# EAGLE library part LTC4442-8MSOP (library LTC4442(8MSOP))
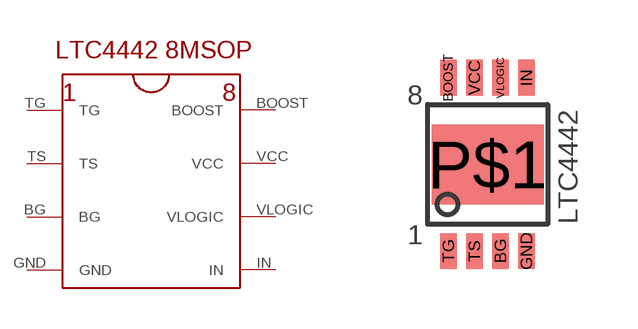
[diagram p0: symbol with the pads of LTC4442-8MSOP; footprint LTC4442-8MSOP]

Designator prefix -

## LTC4442-8MSOP  [LTC4442-8MSOP]
BG  BG
BOOST  BOOST
GND  GND
IN  IN
TG  TG
TS  TS
VCC  VCC
VLOGIC  VLOGIC

## Footprint LTC4442-8MSOP (pad centres in mm)
smd 0.42 x 0.889: BG 0.325,-2.171; BOOST -0.975,2.17; GND 0.975,-2.171; IN 0.975,2.17; TG -0.975,-2.171; TS -0.325,-2.171; VCC -0.325,2.17; VLOGIC 0.325,2.17
smd 2.8 x 2: P$1 0,0